# EAGLE library part MCP23S18T-E/SO (library Birdhouse)
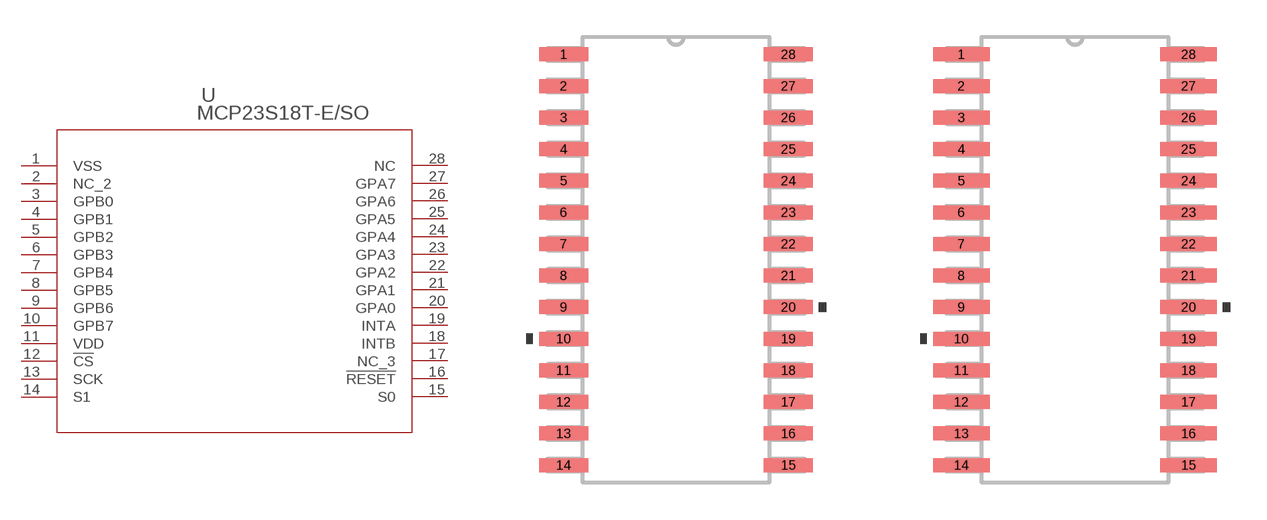
[diagram p8: symbol with the pads of SOIC28-W_MC_MCH; footprints SOIC28-W_MC_MCH, SOIC28-W_MC_MCH-M]

Designator prefix U

## MCP23S18T-E/SO (COPYRIGHT: Copyright (C) 2023 Ultra Librarian. All rights reserved.; DIGI-KEY_PART_NUMBER_1: MCP23S18T-E/SO-ND; DIGI-KEY_PART_NUMBER_2: MCP23S18T-E/SOCT-ND; DIGI-KEY_PART_NUMBER_3: MCP23S18T-E/SODKR-ND; DIGI-KEY_PART_NUMBER_4: MCP23S18T-E/SOTR-ND; MANUFACTURER_PART_NUMBER: MCP23S18T-E/SO; MFR_NAME: Microchip)  [SOIC28-W_MC_MCH]
1  VSS  pas
2  NC_2  pas
3  GPB0  pas
4  GPB1  pas
5  GPB2  pas
6  GPB3  pas
7  GPB4  pas
8  GPB5  pas
9  GPB6  pas
10  GPB7  pas
11  VDD  pas
12  !CS  pas
13  SCK  pas
14  S1  pas
15  S0  pas
16  !RESET  pas
17  NC_3  pas
18  INTB  pas
19  INTA  pas
20  GPA0  pas
21  GPA1  pas
22  GPA2  pas
23  GPA3  pas
24  GPA4  pas
25  GPA5  pas
26  GPA6  pas
27  GPA7  pas
28  NC  pas

## MCP23S18T-E/SOSOIC28-W_MC_MCH-M (COPYRIGHT: Copyright (C) 2023 Ultra Librarian. All rights reserved.; DIGI-KEY_PART_NUMBER_1: MCP23S18T-E/SO-ND; DIGI-KEY_PART_NUMBER_2: MCP23S18T-E/SOCT-ND; DIGI-KEY_PART_NUMBER_3: MCP23S18T-E/SODKR-ND; DIGI-KEY_PART_NUMBER_4: MCP23S18T-E/SOTR-ND; MANUFACTURER_PART_NUMBER: MCP23S18T-E/SO; MFR_NAME: Microchip)  [SOIC28-W_MC_MCH-M]
Pads as for SOIC28-W_MC_MCH

## MCP23S18T-E/SOSOIC28-W_MC_MCH-L (COPYRIGHT: Copyright (C) 2023 Ultra Librarian. All rights reserved.; DIGI-KEY_PART_NUMBER_1: MCP23S18T-E/SO-ND; DIGI-KEY_PART_NUMBER_2: MCP23S18T-E/SOCT-ND; DIGI-KEY_PART_NUMBER_3: MCP23S18T-E/SODKR-ND; DIGI-KEY_PART_NUMBER_4: MCP23S18T-E/SOTR-ND; MANUFACTURER_PART_NUMBER: MCP23S18T-E/SO; MFR_NAME: Microchip)  [SOIC28-W_MC_MCH-L]
Pads as for SOIC28-W_MC_MCH

## Footprint SOIC28-W_MC_MCH (pad centres in mm)
smd 1.97 x 0.558: 1 -4.515,8.255; 2 -4.515,6.985; 3 -4.515,5.715; 4 -4.515,4.445; 5 -4.515,3.175; 6 -4.515,1.905; 7 -4.515,0.635; 8 -4.515,-0.635; 9 -4.515,-1.905; 10 -4.515,-3.175; 11 -4.515,-4.445; 12 -4.515,-5.715; 13 -4.515,-6.985; 14 -4.515,-8.255; 15 4.515,-8.255; 16 4.515,-6.985; 17 4.515,-5.715; 18 4.515,-4.445; 19 4.515,-3.175; 20 4.515,-1.905; 21 4.515,-0.635; 22 4.515,0.635; 23 4.515,1.905; 24 4.515,3.175; 25 4.515,4.445; 26 4.515,5.715; 27 4.515,6.985; 28 4.515,8.255

## Footprint SOIC28-W_MC_MCH-M (pad centres in mm)
smd 2.27 x 0.558: 1 -4.565,8.255; 2 -4.565,6.985; 3 -4.565,5.715; 4 -4.565,4.445; 5 -4.565,3.175; 6 -4.565,1.905; 7 -4.565,0.635; 8 -4.565,-0.635; 9 -4.565,-1.905; 10 -4.565,-3.175; 11 -4.565,-4.445; 12 -4.565,-5.715; 13 -4.565,-6.985; 14 -4.565,-8.255; 15 4.565,-8.255; 16 4.565,-6.985; 17 4.565,-5.715; 18 4.565,-4.445; 19 4.565,-3.175; 20 4.565,-1.905; 21 4.565,-0.635; 22 4.565,0.635; 23 4.565,1.905; 24 4.565,3.175; 25 4.565,4.445; 26 4.565,5.715; 27 4.565,6.985; 28 4.565,8.255

## Footprint SOIC28-W_MC_MCH-L (pad centres in mm)
smd 1.67 x 0.508: 1 -4.465,8.255; 2 -4.465,6.985; 3 -4.465,5.715; 4 -4.465,4.445; 5 -4.465,3.175; 6 -4.465,1.905; 7 -4.465,0.635; 8 -4.465,-0.635; 9 -4.465,-1.905; 10 -4.465,-3.175; 11 -4.465,-4.445; 12 -4.465,-5.715; 13 -4.465,-6.985; 14 -4.465,-8.255; 15 4.465,-8.255; 16 4.465,-6.985; 17 4.465,-5.715; 18 4.465,-4.445; 19 4.465,-3.175; 20 4.465,-1.905; 21 4.465,-0.635; 22 4.465,0.635; 23 4.465,1.905; 24 4.465,3.175; 25 4.465,4.445; 26 4.465,5.715; 27 4.465,6.985; 28 4.465,8.255